# Altium footprint library Connector_Samtec_FSI.PcbLib: 90 footprints (part 6 of 6)
Each footprint in its own frame and in the unit in brackets; x right, y up, seen from the top. Pads: shape width x height; smd on the part's side, far side on the other; paste and mask are expansions set on the pad; w line width, h text height; cw(c..) or ccw(c..) is an arc to the next point about the centre after c.
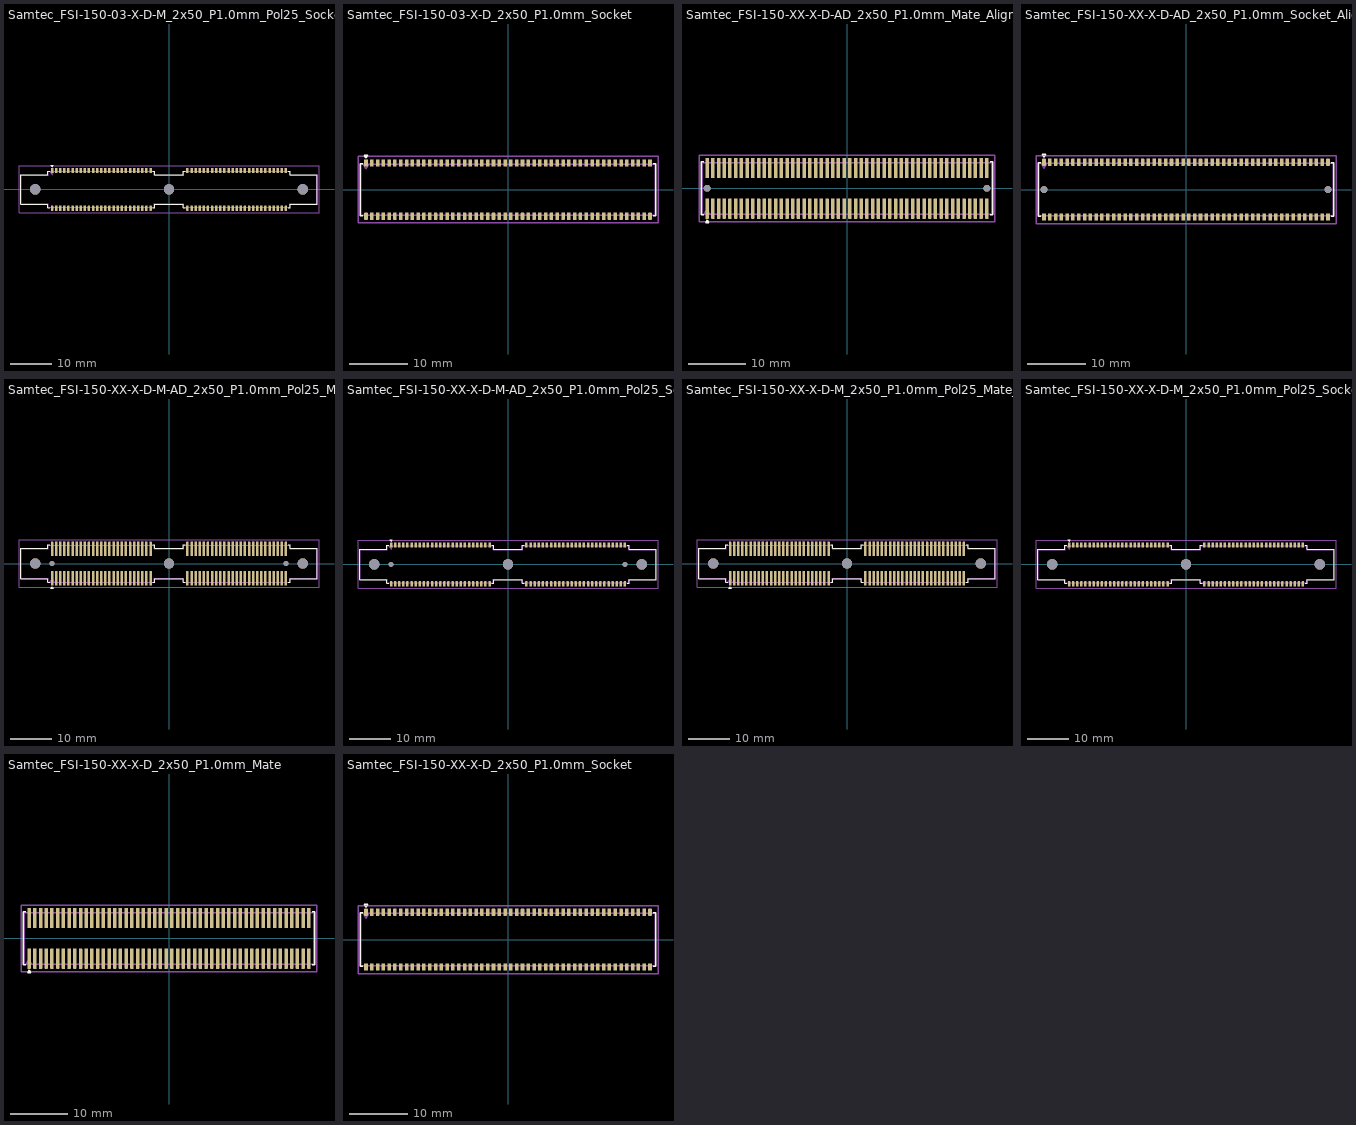
[diagram p5: the footprints below, top view; thin cyan lines are the x and y axes]

## Samtec_FSI-150-03-X-D-M_2x50_P1.0mm_Pol25_Socket_Threaded [mm]
pads (103):
  rrect25% 0.61x1.26 smd: 1(-28.5,4.59) 2(-28.5,-4.59) 3(-27.5,4.59) 4(-27.5,-4.59) 5(-26.5,4.59) 6(-26.5,-4.59) 7(-25.5,4.59) 8(-25.5,-4.59) 9(-24.5,4.59) 10(-24.5,-4.59) 11(-23.5,4.59) 12(-23.5,-4.59) 13(-22.5,4.59) 14(-22.5,-4.59) 15(-21.5,4.59) 16(-21.5,-4.59) 17(-20.5,4.59) 18(-20.5,-4.59) 19(-19.5,4.59) 20(-19.5,-4.59) 21(-18.5,4.59) 22(-18.5,-4.59) 23(-17.5,4.59) 24(-17.5,-4.59) 25(-16.5,4.59) 26(-16.5,-4.59) 27(-15.5,4.59) 28(-15.5,-4.59) 29(-14.5,4.59) 30(-14.5,-4.59) 31(-13.5,4.59) 32(-13.5,-4.59) 33(-12.5,4.59) 34(-12.5,-4.59) 35(-11.5,4.59) 36(-11.5,-4.59) 37(-10.5,4.59) 38(-10.5,-4.59) 39(-9.5,4.59) 40(-9.5,-4.59) 41(-8.5,4.59) 42(-8.5,-4.59) 43(-7.5,4.59) 44(-7.5,-4.59) 45(-6.5,4.59) 46(-6.5,-4.59) 47(-5.5,4.59) 48(-5.5,-4.59) 49(-4.5,4.59) 50(-4.5,-4.59) 51(4.5,4.59) 52(4.5,-4.59) 53(5.5,4.59) 54(5.5,-4.59) 55(6.5,4.59) 56(6.5,-4.59) 57(7.5,4.59) 58(7.5,-4.59) 59(8.5,4.59) 60(8.5,-4.59) 61(9.5,4.59) 62(9.5,-4.59) 63(10.5,4.59) 64(10.5,-4.59) 65(11.5,4.59) 66(11.5,-4.59) 67(12.5,4.59) 68(12.5,-4.59) 69(13.5,4.59) 70(13.5,-4.59) 71(14.5,4.59) 72(14.5,-4.59) 73(15.5,4.59) 74(15.5,-4.59) 75(16.5,4.59) 76(16.5,-4.59) 77(17.5,4.59) 78(17.5,-4.59) 79(18.5,4.59) 80(18.5,-4.59) 81(19.5,4.59) 82(19.5,-4.59) 83(20.5,4.59) 84(20.5,-4.59) 85(21.5,4.59) 86(21.5,-4.59) 87(22.5,4.59) 88(22.5,-4.59) 89(23.5,4.59) 90(23.5,-4.59) 91(24.5,4.59) 92(24.5,-4.59) 93(25.5,4.59) 94(25.5,-4.59) 95(26.5,4.59) 96(26.5,-4.59) 97(27.5,4.59) 98(27.5,-4.59) 99(28.5,4.59) 100(28.5,-4.59)
  round 2.54 hole 2.54: Un1(-32.62,0) Un2(0,0) Un3(32.62,0)
F.SilkS:
  lines w0.254: -29.065,-4.49 -29.49,-4.49 -29.49,-3.605 -36.16,-3.605 -36.16,3.605 -29.49,3.605 -29.49,4.49 -29.065,4.49 ; -3.935,-4.49 -3.51,-4.49 -3.51,-3.605 3.51,-3.605 3.51,-4.49 3.935,-4.49 ; -3.935,4.49 -3.51,4.49 -3.51,3.605 3.51,3.605 3.51,4.49 3.935,4.49 ; 29.065,-4.49 29.49,-4.49 29.49,-3.605 36.16,-3.605 36.16,3.605 29.49,3.605 29.49,4.49 29.065,4.49 ; -28.764,5.937 -28.236,5.937 -28.5,5.48 -28.764,5.937
Top Assembly:
  lines w0.254: -29,4.38 -28.5,3.58 -28,4.38 ; -36.05,-3.495 -29.38,-3.495 -29.38,-4.38 -3.62,-4.38 -3.62,-3.495 3.62,-3.495 3.62,-4.38 29.38,-4.38 29.38,-3.495 36.05,-3.495 36.05,3.495 29.38,3.495 29.38,4.38 3.62,4.38 3.62,3.495 -3.62,3.495 -3.62,4.38 -29.38,4.38 -29.38,3.495 -36.05,3.495 -36.05,-3.495
  text "'.Designator'" at -4.047,-0.84 h1
Top Courtyard:
  lines w0.254: -36.55,-5.72 36.55,-5.72 36.55,5.72 -36.55,5.72 -36.55,-5.72
Top Designator:
  text ".Designator" at -7.618,-0.399 h1.52

## Samtec_FSI-150-03-X-D_2x50_P1.0mm_Socket [mm]
pads (100):
  rrect25% 0.61x1.26 smd: 1(-24.5,4.59) 2(-24.5,-4.59) 3(-23.5,4.59) 4(-23.5,-4.59) 5(-22.5,4.59) 6(-22.5,-4.59) 7(-21.5,4.59) 8(-21.5,-4.59) 9(-20.5,4.59) 10(-20.5,-4.59) 11(-19.5,4.59) 12(-19.5,-4.59) 13(-18.5,4.59) 14(-18.5,-4.59) 15(-17.5,4.59) 16(-17.5,-4.59) 17(-16.5,4.59) 18(-16.5,-4.59) 19(-15.5,4.59) 20(-15.5,-4.59) 21(-14.5,4.59) 22(-14.5,-4.59) 23(-13.5,4.59) 24(-13.5,-4.59) 25(-12.5,4.59) 26(-12.5,-4.59) 27(-11.5,4.59) 28(-11.5,-4.59) 29(-10.5,4.59) 30(-10.5,-4.59) 31(-9.5,4.59) 32(-9.5,-4.59) 33(-8.5,4.59) 34(-8.5,-4.59) 35(-7.5,4.59) 36(-7.5,-4.59) 37(-6.5,4.59) 38(-6.5,-4.59) 39(-5.5,4.59) 40(-5.5,-4.59) 41(-4.5,4.59) 42(-4.5,-4.59) 43(-3.5,4.59) 44(-3.5,-4.59) 45(-2.5,4.59) 46(-2.5,-4.59) 47(-1.5,4.59) 48(-1.5,-4.59) 49(-0.5,4.59) 50(-0.5,-4.59) 51(0.5,4.59) 52(0.5,-4.59) 53(1.5,4.59) 54(1.5,-4.59) 55(2.5,4.59) 56(2.5,-4.59) 57(3.5,4.59) 58(3.5,-4.59) 59(4.5,4.59) 60(4.5,-4.59) 61(5.5,4.59) 62(5.5,-4.59) 63(6.5,4.59) 64(6.5,-4.59) 65(7.5,4.59) 66(7.5,-4.59) 67(8.5,4.59) 68(8.5,-4.59) 69(9.5,4.59) 70(9.5,-4.59) 71(10.5,4.59) 72(10.5,-4.59) 73(11.5,4.59) 74(11.5,-4.59) 75(12.5,4.59) 76(12.5,-4.59) 77(13.5,4.59) 78(13.5,-4.59) 79(14.5,4.59) 80(14.5,-4.59) 81(15.5,4.59) 82(15.5,-4.59) 83(16.5,4.59) 84(16.5,-4.59) 85(17.5,4.59) 86(17.5,-4.59) 87(18.5,4.59) 88(18.5,-4.59) 89(19.5,4.59) 90(19.5,-4.59) 91(20.5,4.59) 92(20.5,-4.59) 93(21.5,4.59) 94(21.5,-4.59) 95(22.5,4.59) 96(22.5,-4.59) 97(23.5,4.59) 98(23.5,-4.59) 99(24.5,4.59) 100(24.5,-4.59)
F.SilkS:
  lines w0.254: -25.065,-4.49 -25.49,-4.49 -25.49,4.49 -25.065,4.49 ; 25.065,-4.49 25.49,-4.49 25.49,4.49 25.065,4.49 ; -24.764,5.937 -24.236,5.937 -24.5,5.48 -24.764,5.937
Top Assembly:
  lines w0.254: -25,4.38 -24.5,3.58 -24,4.38 ; -25.38,-4.38 25.38,-4.38 25.38,4.38 -25.38,4.38 -25.38,-4.38
  text "'.Designator'" at -4.047,-0.84 h1
Top Courtyard:
  lines w0.254: -25.88,-5.72 25.88,-5.72 25.88,5.72 -25.88,5.72 -25.88,-5.72
Top Designator:
  text ".Designator" at -7.618,-0.399 h1.52

## Samtec_FSI-150-XX-X-D-AD_2x50_P1.0mm_Mate_AlignmentPin [mm]
pads (102):
  rrect25% 0.61x3.55 smd: 1(-24.5,-3.555) 2(-24.5,3.555) 3(-23.5,-3.555) 4(-23.5,3.555) 5(-22.5,-3.555) 6(-22.5,3.555) 7(-21.5,-3.555) 8(-21.5,3.555) 9(-20.5,-3.555) 10(-20.5,3.555) 11(-19.5,-3.555) 12(-19.5,3.555) 13(-18.5,-3.555) 14(-18.5,3.555) 15(-17.5,-3.555) 16(-17.5,3.555) 17(-16.5,-3.555) 18(-16.5,3.555) 19(-15.5,-3.555) 20(-15.5,3.555) 21(-14.5,-3.555) 22(-14.5,3.555) 23(-13.5,-3.555) 24(-13.5,3.555) 25(-12.5,-3.555) 26(-12.5,3.555) 27(-11.5,-3.555) 28(-11.5,3.555) 29(-10.5,-3.555) 30(-10.5,3.555) 31(-9.5,-3.555) 32(-9.5,3.555) 33(-8.5,-3.555) 34(-8.5,3.555) 35(-7.5,-3.555) 36(-7.5,3.555) 37(-6.5,-3.555) 38(-6.5,3.555) 39(-5.5,-3.555) 40(-5.5,3.555) 41(-4.5,-3.555) 42(-4.5,3.555) 43(-3.5,-3.555) 44(-3.5,3.555) 45(-2.5,-3.555) 46(-2.5,3.555) 47(-1.5,-3.555) 48(-1.5,3.555) 49(-0.5,-3.555) 50(-0.5,3.555) 51(0.5,-3.555) 52(0.5,3.555) 53(1.5,-3.555) 54(1.5,3.555) 55(2.5,-3.555) 56(2.5,3.555) 57(3.5,-3.555) 58(3.5,3.555) 59(4.5,-3.555) 60(4.5,3.555) 61(5.5,-3.555) 62(5.5,3.555) 63(6.5,-3.555) 64(6.5,3.555) 65(7.5,-3.555) 66(7.5,3.555) 67(8.5,-3.555) 68(8.5,3.555) 69(9.5,-3.555) 70(9.5,3.555) 71(10.5,-3.555) 72(10.5,3.555) 73(11.5,-3.555) 74(11.5,3.555) 75(12.5,-3.555) 76(12.5,3.555) 77(13.5,-3.555) 78(13.5,3.555) 79(14.5,-3.555) 80(14.5,3.555) 81(15.5,-3.555) 82(15.5,3.555) 83(16.5,-3.555) 84(16.5,3.555) 85(17.5,-3.555) 86(17.5,3.555) 87(18.5,-3.555) 88(18.5,3.555) 89(19.5,-3.555) 90(19.5,3.555) 91(20.5,-3.555) 92(20.5,3.555) 93(21.5,-3.555) 94(21.5,3.555) 95(22.5,-3.555) 96(22.5,3.555) 97(23.5,-3.555) 98(23.5,3.555) 99(24.5,-3.555) 100(24.5,3.555)
  round 1.19 hole 1.19: Un1(-24.5,0) Un2(24.5,0)
F.SilkS:
  lines w0.254: -25.065,-4.618 -25.49,-4.618 -25.49,4.618 -25.065,4.618 ; 25.065,-4.618 25.49,-4.618 25.49,4.618 25.065,4.618 ; -24.764,-6.066 -24.236,-6.066 -24.5,-5.609 -24.764,-6.066
Top Assembly:
  lines w0.254: -25,-4.508 -24.5,-3.708 -24,-4.508 ; -25.38,-4.508 25.38,-4.508 25.38,4.508 -25.38,4.508 -25.38,-4.508
  text "'.Designator'" at -4.047,-0.84 h1
Top Courtyard:
  lines w0.254: -25.88,-5.83 25.88,-5.83 25.88,5.83 -25.88,5.83 -25.88,-5.83
Top Designator:
  text ".Designator" at -7.618,-0.626 h1.52

## Samtec_FSI-150-XX-X-D-AD_2x50_P1.0mm_Socket_AlignmentPin [mm]
pads (102):
  rrect25% 0.61x1.26 smd: 1(-24.5,4.73) 2(-24.5,-4.73) 3(-23.5,4.73) 4(-23.5,-4.73) 5(-22.5,4.73) 6(-22.5,-4.73) 7(-21.5,4.73) 8(-21.5,-4.73) 9(-20.5,4.73) 10(-20.5,-4.73) 11(-19.5,4.73) 12(-19.5,-4.73) 13(-18.5,4.73) 14(-18.5,-4.73) 15(-17.5,4.73) 16(-17.5,-4.73) 17(-16.5,4.73) 18(-16.5,-4.73) 19(-15.5,4.73) 20(-15.5,-4.73) 21(-14.5,4.73) 22(-14.5,-4.73) 23(-13.5,4.73) 24(-13.5,-4.73) 25(-12.5,4.73) 26(-12.5,-4.73) 27(-11.5,4.73) 28(-11.5,-4.73) 29(-10.5,4.73) 30(-10.5,-4.73) 31(-9.5,4.73) 32(-9.5,-4.73) 33(-8.5,4.73) 34(-8.5,-4.73) 35(-7.5,4.73) 36(-7.5,-4.73) 37(-6.5,4.73) 38(-6.5,-4.73) 39(-5.5,4.73) 40(-5.5,-4.73) 41(-4.5,4.73) 42(-4.5,-4.73) 43(-3.5,4.73) 44(-3.5,-4.73) 45(-2.5,4.73) 46(-2.5,-4.73) 47(-1.5,4.73) 48(-1.5,-4.73) 49(-0.5,4.73) 50(-0.5,-4.73) 51(0.5,4.73) 52(0.5,-4.73) 53(1.5,4.73) 54(1.5,-4.73) 55(2.5,4.73) 56(2.5,-4.73) 57(3.5,4.73) 58(3.5,-4.73) 59(4.5,4.73) 60(4.5,-4.73) 61(5.5,4.73) 62(5.5,-4.73) 63(6.5,4.73) 64(6.5,-4.73) 65(7.5,4.73) 66(7.5,-4.73) 67(8.5,4.73) 68(8.5,-4.73) 69(9.5,4.73) 70(9.5,-4.73) 71(10.5,4.73) 72(10.5,-4.73) 73(11.5,4.73) 74(11.5,-4.73) 75(12.5,4.73) 76(12.5,-4.73) 77(13.5,4.73) 78(13.5,-4.73) 79(14.5,4.73) 80(14.5,-4.73) 81(15.5,4.73) 82(15.5,-4.73) 83(16.5,4.73) 84(16.5,-4.73) 85(17.5,4.73) 86(17.5,-4.73) 87(18.5,4.73) 88(18.5,-4.73) 89(19.5,4.73) 90(19.5,-4.73) 91(20.5,4.73) 92(20.5,-4.73) 93(21.5,4.73) 94(21.5,-4.73) 95(22.5,4.73) 96(22.5,-4.73) 97(23.5,4.73) 98(23.5,-4.73) 99(24.5,4.73) 100(24.5,-4.73)
  round 1.19 hole 1.19: Un1(-24.5,0) Un2(24.5,0)
F.SilkS:
  lines w0.254: -25.065,-4.618 -25.49,-4.618 -25.49,4.618 -25.065,4.618 ; -24.507,5.62 -24.764,6.066 -24.236,6.066 -24.493,5.62 ; 25.065,-4.618 25.49,-4.618 25.49,4.618 25.065,4.618
Top Assembly:
  lines w0.254: -25,4.508 -24.5,3.708 -24,4.508 ; -25.38,-4.508 25.38,-4.508 25.38,4.508 -25.38,4.508 -25.38,-4.508
  text "'.Designator'" at -4.047,-0.84 h1
Top Courtyard:
  lines w0.254: -25.88,-5.86 25.88,-5.86 25.88,5.86 -25.88,5.86 -25.88,-5.86
Top Designator:
  text ".Designator" at -7.618,-0.405 h1.52

## Samtec_FSI-150-XX-X-D-M-AD_2x50_P1.0mm_Pol25_Mate_Threaded_AlignmentPin [mm]
pads (105):
  rrect25% 0.61x3.55 smd: 1(-28.5,-3.555) 2(-28.5,3.555) 3(-27.5,-3.555) 4(-27.5,3.555) 5(-26.5,-3.555) 6(-26.5,3.555) 7(-25.5,-3.555) 8(-25.5,3.555) 9(-24.5,-3.555) 10(-24.5,3.555) 11(-23.5,-3.555) 12(-23.5,3.555) 13(-22.5,-3.555) 14(-22.5,3.555) 15(-21.5,-3.555) 16(-21.5,3.555) 17(-20.5,-3.555) 18(-20.5,3.555) 19(-19.5,-3.555) 20(-19.5,3.555) 21(-18.5,-3.555) 22(-18.5,3.555) 23(-17.5,-3.555) 24(-17.5,3.555) 25(-16.5,-3.555) 26(-16.5,3.555) 27(-15.5,-3.555) 28(-15.5,3.555) 29(-14.5,-3.555) 30(-14.5,3.555) 31(-13.5,-3.555) 32(-13.5,3.555) 33(-12.5,-3.555) 34(-12.5,3.555) 35(-11.5,-3.555) 36(-11.5,3.555) 37(-10.5,-3.555) 38(-10.5,3.555) 39(-9.5,-3.555) 40(-9.5,3.555) 41(-8.5,-3.555) 42(-8.5,3.555) 43(-7.5,-3.555) 44(-7.5,3.555) 45(-6.5,-3.555) 46(-6.5,3.555) 47(-5.5,-3.555) 48(-5.5,3.555) 49(-4.5,-3.555) 50(-4.5,3.555) 51(4.5,-3.555) 52(4.5,3.555) 53(5.5,-3.555) 54(5.5,3.555) 55(6.5,-3.555) 56(6.5,3.555) 57(7.5,-3.555) 58(7.5,3.555) 59(8.5,-3.555) 60(8.5,3.555) 61(9.5,-3.555) 62(9.5,3.555) 63(10.5,-3.555) 64(10.5,3.555) 65(11.5,-3.555) 66(11.5,3.555) 67(12.5,-3.555) 68(12.5,3.555) 69(13.5,-3.555) 70(13.5,3.555) 71(14.5,-3.555) 72(14.5,3.555) 73(15.5,-3.555) 74(15.5,3.555) 75(16.5,-3.555) 76(16.5,3.555) 77(17.5,-3.555) 78(17.5,3.555) 79(18.5,-3.555) 80(18.5,3.555) 81(19.5,-3.555) 82(19.5,3.555) 83(20.5,-3.555) 84(20.5,3.555) 85(21.5,-3.555) 86(21.5,3.555) 87(22.5,-3.555) 88(22.5,3.555) 89(23.5,-3.555) 90(23.5,3.555) 91(24.5,-3.555) 92(24.5,3.555) 93(25.5,-3.555) 94(25.5,3.555) 95(26.5,-3.555) 96(26.5,3.555) 97(27.5,-3.555) 98(27.5,3.555) 99(28.5,-3.555) 100(28.5,3.555)
  round 2.54 hole 2.54: Un1(-32.62,0) Un3(0,0) Un5(32.62,0)
  round 1.19 hole 1.19: Un2(-28.5,0) Un4(28.5,0)
F.SilkS:
  lines w0.254: -29.065,-4.618 -29.49,-4.618 -29.49,-3.734 -36.16,-3.734 -36.16,3.734 -29.49,3.734 -29.49,4.618 -29.065,4.618 ; -3.935,-4.618 -3.51,-4.618 -3.51,-3.734 3.51,-3.734 3.51,-4.618 3.935,-4.618 ; -3.935,4.618 -3.51,4.618 -3.51,3.734 3.51,3.734 3.51,4.618 3.935,4.618 ; 29.065,-4.618 29.49,-4.618 29.49,-3.734 36.16,-3.734 36.16,3.734 29.49,3.734 29.49,4.618 29.065,4.618 ; -28.764,-6.066 -28.236,-6.066 -28.5,-5.609 -28.764,-6.066
Top Assembly:
  lines w0.254: -29,-4.508 -28.5,-3.708 -28,-4.508 ; -36.05,-3.624 -29.38,-3.624 -29.38,-4.508 -3.62,-4.508 -3.62,-3.624 3.62,-3.624 3.62,-4.508 29.38,-4.508 29.38,-3.624 36.05,-3.624 36.05,3.624 29.38,3.624 29.38,4.508 3.62,4.508 3.62,3.624 -3.62,3.624 -3.62,4.508 -29.38,4.508 -29.38,3.624 -36.05,3.624 -36.05,-3.624
  text "'.Designator'" at -4.047,-0.84 h1
Top Courtyard:
  lines w0.254: -36.55,-5.83 36.55,-5.83 36.55,5.83 -36.55,5.83 -36.55,-5.83
Top Designator:
  text ".Designator" at -7.618,-0.626 h1.52

## Samtec_FSI-150-XX-X-D-M-AD_2x50_P1.0mm_Pol25_Socket_Threaded_AlignmentPin [mm]
pads (105):
  rrect25% 0.61x1.26 smd: 1(-28.5,4.73) 2(-28.5,-4.73) 3(-27.5,4.73) 4(-27.5,-4.73) 5(-26.5,4.73) 6(-26.5,-4.73) 7(-25.5,4.73) 8(-25.5,-4.73) 9(-24.5,4.73) 10(-24.5,-4.73) 11(-23.5,4.73) 12(-23.5,-4.73) 13(-22.5,4.73) 14(-22.5,-4.73) 15(-21.5,4.73) 16(-21.5,-4.73) 17(-20.5,4.73) 18(-20.5,-4.73) 19(-19.5,4.73) 20(-19.5,-4.73) 21(-18.5,4.73) 22(-18.5,-4.73) 23(-17.5,4.73) 24(-17.5,-4.73) 25(-16.5,4.73) 26(-16.5,-4.73) 27(-15.5,4.73) 28(-15.5,-4.73) 29(-14.5,4.73) 30(-14.5,-4.73) 31(-13.5,4.73) 32(-13.5,-4.73) 33(-12.5,4.73) 34(-12.5,-4.73) 35(-11.5,4.73) 36(-11.5,-4.73) 37(-10.5,4.73) 38(-10.5,-4.73) 39(-9.5,4.73) 40(-9.5,-4.73) 41(-8.5,4.73) 42(-8.5,-4.73) 43(-7.5,4.73) 44(-7.5,-4.73) 45(-6.5,4.73) 46(-6.5,-4.73) 47(-5.5,4.73) 48(-5.5,-4.73) 49(-4.5,4.73) 50(-4.5,-4.73) 51(4.5,4.73) 52(4.5,-4.73) 53(5.5,4.73) 54(5.5,-4.73) 55(6.5,4.73) 56(6.5,-4.73) 57(7.5,4.73) 58(7.5,-4.73) 59(8.5,4.73) 60(8.5,-4.73) 61(9.5,4.73) 62(9.5,-4.73) 63(10.5,4.73) 64(10.5,-4.73) 65(11.5,4.73) 66(11.5,-4.73) 67(12.5,4.73) 68(12.5,-4.73) 69(13.5,4.73) 70(13.5,-4.73) 71(14.5,4.73) 72(14.5,-4.73) 73(15.5,4.73) 74(15.5,-4.73) 75(16.5,4.73) 76(16.5,-4.73) 77(17.5,4.73) 78(17.5,-4.73) 79(18.5,4.73) 80(18.5,-4.73) 81(19.5,4.73) 82(19.5,-4.73) 83(20.5,4.73) 84(20.5,-4.73) 85(21.5,4.73) 86(21.5,-4.73) 87(22.5,4.73) 88(22.5,-4.73) 89(23.5,4.73) 90(23.5,-4.73) 91(24.5,4.73) 92(24.5,-4.73) 93(25.5,4.73) 94(25.5,-4.73) 95(26.5,4.73) 96(26.5,-4.73) 97(27.5,4.73) 98(27.5,-4.73) 99(28.5,4.73) 100(28.5,-4.73)
  round 2.54 hole 2.54: Un1(-32.62,0) Un3(0,0) Un5(32.62,0)
  round 1.19 hole 1.19: Un2(-28.5,0) Un4(28.5,0)
F.SilkS:
  lines w0.254: -29.065,-4.618 -29.49,-4.618 -29.49,-3.734 -36.16,-3.734 -36.16,3.734 -29.49,3.734 -29.49,4.618 -29.065,4.618 ; -28.507,5.62 -28.764,6.066 -28.236,6.066 -28.493,5.62 ; -3.935,-4.618 -3.51,-4.618 -3.51,-3.734 3.51,-3.734 3.51,-4.618 3.935,-4.618 ; -3.935,4.618 -3.51,4.618 -3.51,3.734 3.51,3.734 3.51,4.618 3.935,4.618 ; 29.065,-4.618 29.49,-4.618 29.49,-3.734 36.16,-3.734 36.16,3.734 29.49,3.734 29.49,4.618 29.065,4.618
Top Assembly:
  lines w0.254: -29,4.508 -28.5,3.708 -28,4.508 ; -36.05,-3.624 -29.38,-3.624 -29.38,-4.508 -3.62,-4.508 -3.62,-3.624 3.62,-3.624 3.62,-4.508 29.38,-4.508 29.38,-3.624 36.05,-3.624 36.05,3.624 29.38,3.624 29.38,4.508 3.62,4.508 3.62,3.624 -3.62,3.624 -3.62,4.508 -29.38,4.508 -29.38,3.624 -36.05,3.624 -36.05,-3.624
  text "'.Designator'" at -4.047,-0.84 h1
Top Courtyard:
  lines w0.254: -36.55,-5.86 36.55,-5.86 36.55,5.86 -36.55,5.86 -36.55,-5.86
Top Designator:
  text ".Designator" at -7.618,-0.405 h1.52

## Samtec_FSI-150-XX-X-D-M_2x50_P1.0mm_Pol25_Mate_Threaded [mm]
pads (103):
  rrect25% 0.61x3.55 smd: 1(-28.5,-3.555) 2(-28.5,3.555) 3(-27.5,-3.555) 4(-27.5,3.555) 5(-26.5,-3.555) 6(-26.5,3.555) 7(-25.5,-3.555) 8(-25.5,3.555) 9(-24.5,-3.555) 10(-24.5,3.555) 11(-23.5,-3.555) 12(-23.5,3.555) 13(-22.5,-3.555) 14(-22.5,3.555) 15(-21.5,-3.555) 16(-21.5,3.555) 17(-20.5,-3.555) 18(-20.5,3.555) 19(-19.5,-3.555) 20(-19.5,3.555) 21(-18.5,-3.555) 22(-18.5,3.555) 23(-17.5,-3.555) 24(-17.5,3.555) 25(-16.5,-3.555) 26(-16.5,3.555) 27(-15.5,-3.555) 28(-15.5,3.555) 29(-14.5,-3.555) 30(-14.5,3.555) 31(-13.5,-3.555) 32(-13.5,3.555) 33(-12.5,-3.555) 34(-12.5,3.555) 35(-11.5,-3.555) 36(-11.5,3.555) 37(-10.5,-3.555) 38(-10.5,3.555) 39(-9.5,-3.555) 40(-9.5,3.555) 41(-8.5,-3.555) 42(-8.5,3.555) 43(-7.5,-3.555) 44(-7.5,3.555) 45(-6.5,-3.555) 46(-6.5,3.555) 47(-5.5,-3.555) 48(-5.5,3.555) 49(-4.5,-3.555) 50(-4.5,3.555) 51(4.5,-3.555) 52(4.5,3.555) 53(5.5,-3.555) 54(5.5,3.555) 55(6.5,-3.555) 56(6.5,3.555) 57(7.5,-3.555) 58(7.5,3.555) 59(8.5,-3.555) 60(8.5,3.555) 61(9.5,-3.555) 62(9.5,3.555) 63(10.5,-3.555) 64(10.5,3.555) 65(11.5,-3.555) 66(11.5,3.555) 67(12.5,-3.555) 68(12.5,3.555) 69(13.5,-3.555) 70(13.5,3.555) 71(14.5,-3.555) 72(14.5,3.555) 73(15.5,-3.555) 74(15.5,3.555) 75(16.5,-3.555) 76(16.5,3.555) 77(17.5,-3.555) 78(17.5,3.555) 79(18.5,-3.555) 80(18.5,3.555) 81(19.5,-3.555) 82(19.5,3.555) 83(20.5,-3.555) 84(20.5,3.555) 85(21.5,-3.555) 86(21.5,3.555) 87(22.5,-3.555) 88(22.5,3.555) 89(23.5,-3.555) 90(23.5,3.555) 91(24.5,-3.555) 92(24.5,3.555) 93(25.5,-3.555) 94(25.5,3.555) 95(26.5,-3.555) 96(26.5,3.555) 97(27.5,-3.555) 98(27.5,3.555) 99(28.5,-3.555) 100(28.5,3.555)
  round 2.54 hole 2.54: Un1(-32.62,0) Un2(0,0) Un3(32.62,0)
F.SilkS:
  lines w0.254: -29.065,-4.618 -29.49,-4.618 -29.49,-3.734 -36.16,-3.734 -36.16,3.734 -29.49,3.734 -29.49,4.618 -29.065,4.618 ; -3.935,-4.618 -3.51,-4.618 -3.51,-3.734 3.51,-3.734 3.51,-4.618 3.935,-4.618 ; -3.935,4.618 -3.51,4.618 -3.51,3.734 3.51,3.734 3.51,4.618 3.935,4.618 ; 29.065,-4.618 29.49,-4.618 29.49,-3.734 36.16,-3.734 36.16,3.734 29.49,3.734 29.49,4.618 29.065,4.618 ; -28.764,-6.066 -28.236,-6.066 -28.5,-5.609 -28.764,-6.066
Top Assembly:
  lines w0.254: -29,-4.508 -28.5,-3.708 -28,-4.508 ; -36.05,-3.624 -29.38,-3.624 -29.38,-4.508 -3.62,-4.508 -3.62,-3.624 3.62,-3.624 3.62,-4.508 29.38,-4.508 29.38,-3.624 36.05,-3.624 36.05,3.624 29.38,3.624 29.38,4.508 3.62,4.508 3.62,3.624 -3.62,3.624 -3.62,4.508 -29.38,4.508 -29.38,3.624 -36.05,3.624 -36.05,-3.624
  text "'.Designator'" at -4.047,-0.84 h1
Top Courtyard:
  lines w0.254: -36.55,-5.83 36.55,-5.83 36.55,5.83 -36.55,5.83 -36.55,-5.83
Top Designator:
  text ".Designator" at -7.618,-0.626 h1.52

## Samtec_FSI-150-XX-X-D-M_2x50_P1.0mm_Pol25_Socket_Threaded [mm]
pads (103):
  rrect25% 0.61x1.26 smd: 1(-28.5,4.73) 2(-28.5,-4.73) 3(-27.5,4.73) 4(-27.5,-4.73) 5(-26.5,4.73) 6(-26.5,-4.73) 7(-25.5,4.73) 8(-25.5,-4.73) 9(-24.5,4.73) 10(-24.5,-4.73) 11(-23.5,4.73) 12(-23.5,-4.73) 13(-22.5,4.73) 14(-22.5,-4.73) 15(-21.5,4.73) 16(-21.5,-4.73) 17(-20.5,4.73) 18(-20.5,-4.73) 19(-19.5,4.73) 20(-19.5,-4.73) 21(-18.5,4.73) 22(-18.5,-4.73) 23(-17.5,4.73) 24(-17.5,-4.73) 25(-16.5,4.73) 26(-16.5,-4.73) 27(-15.5,4.73) 28(-15.5,-4.73) 29(-14.5,4.73) 30(-14.5,-4.73) 31(-13.5,4.73) 32(-13.5,-4.73) 33(-12.5,4.73) 34(-12.5,-4.73) 35(-11.5,4.73) 36(-11.5,-4.73) 37(-10.5,4.73) 38(-10.5,-4.73) 39(-9.5,4.73) 40(-9.5,-4.73) 41(-8.5,4.73) 42(-8.5,-4.73) 43(-7.5,4.73) 44(-7.5,-4.73) 45(-6.5,4.73) 46(-6.5,-4.73) 47(-5.5,4.73) 48(-5.5,-4.73) 49(-4.5,4.73) 50(-4.5,-4.73) 51(4.5,4.73) 52(4.5,-4.73) 53(5.5,4.73) 54(5.5,-4.73) 55(6.5,4.73) 56(6.5,-4.73) 57(7.5,4.73) 58(7.5,-4.73) 59(8.5,4.73) 60(8.5,-4.73) 61(9.5,4.73) 62(9.5,-4.73) 63(10.5,4.73) 64(10.5,-4.73) 65(11.5,4.73) 66(11.5,-4.73) 67(12.5,4.73) 68(12.5,-4.73) 69(13.5,4.73) 70(13.5,-4.73) 71(14.5,4.73) 72(14.5,-4.73) 73(15.5,4.73) 74(15.5,-4.73) 75(16.5,4.73) 76(16.5,-4.73) 77(17.5,4.73) 78(17.5,-4.73) 79(18.5,4.73) 80(18.5,-4.73) 81(19.5,4.73) 82(19.5,-4.73) 83(20.5,4.73) 84(20.5,-4.73) 85(21.5,4.73) 86(21.5,-4.73) 87(22.5,4.73) 88(22.5,-4.73) 89(23.5,4.73) 90(23.5,-4.73) 91(24.5,4.73) 92(24.5,-4.73) 93(25.5,4.73) 94(25.5,-4.73) 95(26.5,4.73) 96(26.5,-4.73) 97(27.5,4.73) 98(27.5,-4.73) 99(28.5,4.73) 100(28.5,-4.73)
  round 2.54 hole 2.54: Un1(-32.62,0) Un2(0,0) Un3(32.62,0)
F.SilkS:
  lines w0.254: -29.065,-4.618 -29.49,-4.618 -29.49,-3.734 -36.16,-3.734 -36.16,3.734 -29.49,3.734 -29.49,4.618 -29.065,4.618 ; -28.507,5.62 -28.764,6.066 -28.236,6.066 -28.493,5.62 ; -3.935,-4.618 -3.51,-4.618 -3.51,-3.734 3.51,-3.734 3.51,-4.618 3.935,-4.618 ; -3.935,4.618 -3.51,4.618 -3.51,3.734 3.51,3.734 3.51,4.618 3.935,4.618 ; 29.065,-4.618 29.49,-4.618 29.49,-3.734 36.16,-3.734 36.16,3.734 29.49,3.734 29.49,4.618 29.065,4.618
Top Assembly:
  lines w0.254: -29,4.508 -28.5,3.708 -28,4.508 ; -36.05,-3.624 -29.38,-3.624 -29.38,-4.508 -3.62,-4.508 -3.62,-3.624 3.62,-3.624 3.62,-4.508 29.38,-4.508 29.38,-3.624 36.05,-3.624 36.05,3.624 29.38,3.624 29.38,4.508 3.62,4.508 3.62,3.624 -3.62,3.624 -3.62,4.508 -29.38,4.508 -29.38,3.624 -36.05,3.624 -36.05,-3.624
  text "'.Designator'" at -4.047,-0.84 h1
Top Courtyard:
  lines w0.254: -36.55,-5.86 36.55,-5.86 36.55,5.86 -36.55,5.86 -36.55,-5.86
Top Designator:
  text ".Designator" at -7.618,-0.405 h1.52

## Samtec_FSI-150-XX-X-D_2x50_P1.0mm_Mate [mm]
pads (100):
  rrect25% 0.61x3.55 smd: 1(-24.5,-3.555) 2(-24.5,3.555) 3(-23.5,-3.555) 4(-23.5,3.555) 5(-22.5,-3.555) 6(-22.5,3.555) 7(-21.5,-3.555) 8(-21.5,3.555) 9(-20.5,-3.555) 10(-20.5,3.555) 11(-19.5,-3.555) 12(-19.5,3.555) 13(-18.5,-3.555) 14(-18.5,3.555) 15(-17.5,-3.555) 16(-17.5,3.555) 17(-16.5,-3.555) 18(-16.5,3.555) 19(-15.5,-3.555) 20(-15.5,3.555) 21(-14.5,-3.555) 22(-14.5,3.555) 23(-13.5,-3.555) 24(-13.5,3.555) 25(-12.5,-3.555) 26(-12.5,3.555) 27(-11.5,-3.555) 28(-11.5,3.555) 29(-10.5,-3.555) 30(-10.5,3.555) 31(-9.5,-3.555) 32(-9.5,3.555) 33(-8.5,-3.555) 34(-8.5,3.555) 35(-7.5,-3.555) 36(-7.5,3.555) 37(-6.5,-3.555) 38(-6.5,3.555) 39(-5.5,-3.555) 40(-5.5,3.555) 41(-4.5,-3.555) 42(-4.5,3.555) 43(-3.5,-3.555) 44(-3.5,3.555) 45(-2.5,-3.555) 46(-2.5,3.555) 47(-1.5,-3.555) 48(-1.5,3.555) 49(-0.5,-3.555) 50(-0.5,3.555) 51(0.5,-3.555) 52(0.5,3.555) 53(1.5,-3.555) 54(1.5,3.555) 55(2.5,-3.555) 56(2.5,3.555) 57(3.5,-3.555) 58(3.5,3.555) 59(4.5,-3.555) 60(4.5,3.555) 61(5.5,-3.555) 62(5.5,3.555) 63(6.5,-3.555) 64(6.5,3.555) 65(7.5,-3.555) 66(7.5,3.555) 67(8.5,-3.555) 68(8.5,3.555) 69(9.5,-3.555) 70(9.5,3.555) 71(10.5,-3.555) 72(10.5,3.555) 73(11.5,-3.555) 74(11.5,3.555) 75(12.5,-3.555) 76(12.5,3.555) 77(13.5,-3.555) 78(13.5,3.555) 79(14.5,-3.555) 80(14.5,3.555) 81(15.5,-3.555) 82(15.5,3.555) 83(16.5,-3.555) 84(16.5,3.555) 85(17.5,-3.555) 86(17.5,3.555) 87(18.5,-3.555) 88(18.5,3.555) 89(19.5,-3.555) 90(19.5,3.555) 91(20.5,-3.555) 92(20.5,3.555) 93(21.5,-3.555) 94(21.5,3.555) 95(22.5,-3.555) 96(22.5,3.555) 97(23.5,-3.555) 98(23.5,3.555) 99(24.5,-3.555) 100(24.5,3.555)
F.SilkS:
  lines w0.254: -25.065,-4.618 -25.49,-4.618 -25.49,4.618 -25.065,4.618 ; 25.065,-4.618 25.49,-4.618 25.49,4.618 25.065,4.618 ; -24.764,-6.066 -24.236,-6.066 -24.5,-5.609 -24.764,-6.066
Top Assembly:
  lines w0.254: -25,-4.508 -24.5,-3.708 -24,-4.508 ; -25.38,-4.508 25.38,-4.508 25.38,4.508 -25.38,4.508 -25.38,-4.508
  text "'.Designator'" at -4.047,-0.84 h1
Top Courtyard:
  lines w0.254: -25.88,-5.83 25.88,-5.83 25.88,5.83 -25.88,5.83 -25.88,-5.83
Top Designator:
  text ".Designator" at -7.618,-0.626 h1.52

## Samtec_FSI-150-XX-X-D_2x50_P1.0mm_Socket [mm]
pads (100):
  rrect25% 0.61x1.26 smd: 1(-24.5,4.73) 2(-24.5,-4.73) 3(-23.5,4.73) 4(-23.5,-4.73) 5(-22.5,4.73) 6(-22.5,-4.73) 7(-21.5,4.73) 8(-21.5,-4.73) 9(-20.5,4.73) 10(-20.5,-4.73) 11(-19.5,4.73) 12(-19.5,-4.73) 13(-18.5,4.73) 14(-18.5,-4.73) 15(-17.5,4.73) 16(-17.5,-4.73) 17(-16.5,4.73) 18(-16.5,-4.73) 19(-15.5,4.73) 20(-15.5,-4.73) 21(-14.5,4.73) 22(-14.5,-4.73) 23(-13.5,4.73) 24(-13.5,-4.73) 25(-12.5,4.73) 26(-12.5,-4.73) 27(-11.5,4.73) 28(-11.5,-4.73) 29(-10.5,4.73) 30(-10.5,-4.73) 31(-9.5,4.73) 32(-9.5,-4.73) 33(-8.5,4.73) 34(-8.5,-4.73) 35(-7.5,4.73) 36(-7.5,-4.73) 37(-6.5,4.73) 38(-6.5,-4.73) 39(-5.5,4.73) 40(-5.5,-4.73) 41(-4.5,4.73) 42(-4.5,-4.73) 43(-3.5,4.73) 44(-3.5,-4.73) 45(-2.5,4.73) 46(-2.5,-4.73) 47(-1.5,4.73) 48(-1.5,-4.73) 49(-0.5,4.73) 50(-0.5,-4.73) 51(0.5,4.73) 52(0.5,-4.73) 53(1.5,4.73) 54(1.5,-4.73) 55(2.5,4.73) 56(2.5,-4.73) 57(3.5,4.73) 58(3.5,-4.73) 59(4.5,4.73) 60(4.5,-4.73) 61(5.5,4.73) 62(5.5,-4.73) 63(6.5,4.73) 64(6.5,-4.73) 65(7.5,4.73) 66(7.5,-4.73) 67(8.5,4.73) 68(8.5,-4.73) 69(9.5,4.73) 70(9.5,-4.73) 71(10.5,4.73) 72(10.5,-4.73) 73(11.5,4.73) 74(11.5,-4.73) 75(12.5,4.73) 76(12.5,-4.73) 77(13.5,4.73) 78(13.5,-4.73) 79(14.5,4.73) 80(14.5,-4.73) 81(15.5,4.73) 82(15.5,-4.73) 83(16.5,4.73) 84(16.5,-4.73) 85(17.5,4.73) 86(17.5,-4.73) 87(18.5,4.73) 88(18.5,-4.73) 89(19.5,4.73) 90(19.5,-4.73) 91(20.5,4.73) 92(20.5,-4.73) 93(21.5,4.73) 94(21.5,-4.73) 95(22.5,4.73) 96(22.5,-4.73) 97(23.5,4.73) 98(23.5,-4.73) 99(24.5,4.73) 100(24.5,-4.73)
F.SilkS:
  lines w0.254: -25.065,-4.618 -25.49,-4.618 -25.49,4.618 -25.065,4.618 ; -24.507,5.62 -24.764,6.066 -24.236,6.066 -24.493,5.62 ; 25.065,-4.618 25.49,-4.618 25.49,4.618 25.065,4.618
Top Assembly:
  lines w0.254: -25,4.508 -24.5,3.708 -24,4.508 ; -25.38,-4.508 25.38,-4.508 25.38,4.508 -25.38,4.508 -25.38,-4.508
  text "'.Designator'" at -4.047,-0.84 h1
Top Courtyard:
  lines w0.254: -25.88,-5.86 25.88,-5.86 25.88,5.86 -25.88,5.86 -25.88,-5.86
Top Designator:
  text ".Designator" at -7.618,-0.405 h1.52